# EAGLE library part TCAN3414DDFR (library TCAN3414DDFR)
3.3-V CAN FD transceiver with shut-down and standby mode Source: Datasheet <https://www.ti.com/lit/ds/symlink/tcan3414.pdf?ts=1760693830555&ref_url=https%3A%2F%2Fwww.mouser.pl%2F>
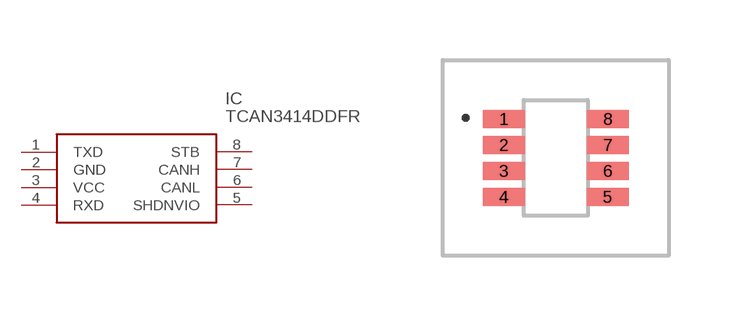
[diagram p0: symbol with the pads of INA190A2NDDFREP; footprint INA190A2NDDFREP]

Designator prefix IC

## TCAN3414DDFR (Description: 3.3-V CAN FD transceiver with shut-down and standby mode; Height: 1.1mm; Manufacturer_Name: Texas Instruments; Manufacturer_Part_Number: TCAN3414DDFR; Mouser_Part_Number: 595-TCAN3414DDFR; Mouser_Price-Stock: https://www.mouser.co.uk/ProductDetail/Texas-Instruments/TCAN3414DDFR?qs=HFfMDpzxxd0evFbsNioEhQ%3D%3D)  [INA190A2NDDFREP]
1  TXD
2  GND
3  VCC
4  RXD
5  SHDNVIO
6  CANL
7  CANH
8  STB

## Footprint INA190A2NDDFREP (pad centres in mm)
DDF0008A
smd 1.05 x 0.45: 1 -1.3,0.975; 2 -1.3,0.325; 3 -1.3,-0.325; 4 -1.3,-0.975; 5 1.3,-0.975; 6 1.3,-0.325; 7 1.3,0.325; 8 1.3,0.975